# Altium footprint library WLCSP49N0.40P7X7_3.3X3.3X0.6-49_49.PcbLib: 1 footprints
Each footprint in its own frame and in the unit in brackets; x right, y up, seen from the top. Pads: shape width x height; smd on the part's side, far side on the other; paste and mask are expansions set on the pad; w line width, h text height; cw(c..) or ccw(c..) is an arc to the next point about the centre after c.
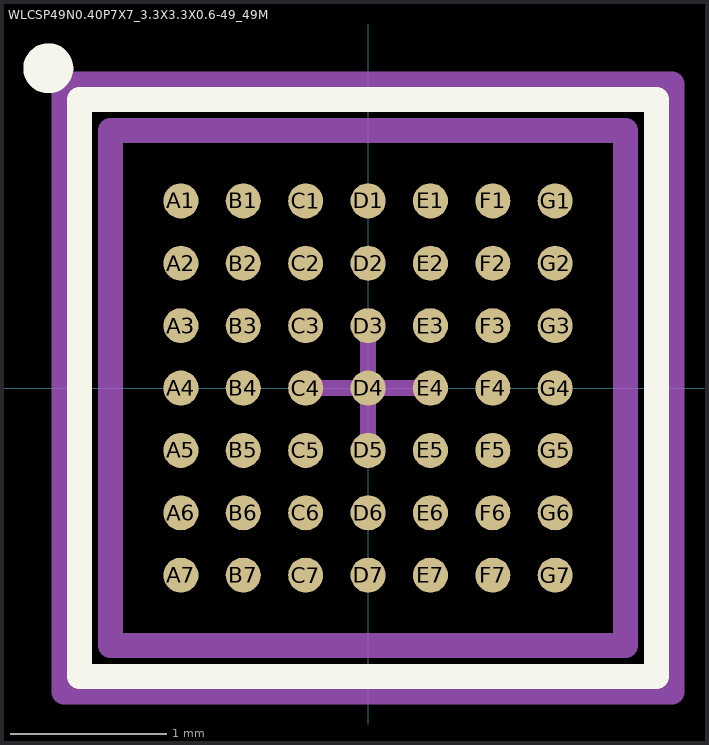
[diagram p0: the footprint, top view; thin cyan lines are the x and y axes]

## WLCSP49N0.40P7X7_3.3X3.3X0.6-49_49M [mm] "WLCSP 49 3.3x3.3x0.6 P 0.4 mm"
height 0.6
pads (49):
  round 0.225 smd: A1(-1.2,1.2) A2(-1.2,0.8) A3(-1.2,0.4) A4(-1.2,0) A5(-1.2,-0.4) A6(-1.2,-0.8) A7(-1.2,-1.2) B1(-0.8,1.2) B2(-0.8,0.8) B3(-0.8,0.4) B4(-0.8,0) B5(-0.8,-0.4) B6(-0.8,-0.8) B7(-0.8,-1.2) C1(-0.4,1.2) C2(-0.4,0.8) C3(-0.4,0.4) C4(-0.4,0) C5(-0.4,-0.4) C6(-0.4,-0.8) C7(-0.4,-1.2) D1(0,1.2) D2(0,0.8) D3(0,0.4) D4(0,0) D5(0,-0.4) D6(0,-0.8) D7(0,-1.2) E1(0.4,1.2) E2(0.4,0.8) E3(0.4,0.4) E4(0.4,0) E5(0.4,-0.4) E6(0.4,-0.8) E7(0.4,-1.2) F1(0.8,1.2) F2(0.8,0.8) F3(0.8,0.4) F4(0.8,0) F5(0.8,-0.4) F6(0.8,-0.8) F7(0.8,-1.2) G1(1.2,1.2) G2(1.2,0.8) G3(1.2,0.4) G4(1.2,0) G5(1.2,-0.4) G6(1.2,-0.8) G7(1.2,-1.2)
Top Overlay:
  circle w0.16: c-2.05,2.05 r0.08
  lines w0.16: -1.85,-1.85 1.85,-1.85 1.85,1.85 -1.85,1.85 -1.85,-1.85
Top Component Center:
  lines w0.1: -0.412,0 0.412,0 ; 0,-0.412 0,0.412
Top Courtyard:
  lines w0.16: -1.95,-1.95 1.95,-1.95 1.95,1.95 -1.95,1.95 -1.95,-1.95
Top Assembly:
  lines w0.16: -1.65,-1.65 1.65,-1.65 1.65,1.65 -1.65,1.65 -1.65,-1.65
3D body "WLCSP49N0.40P7X7_3.3X3.3X0.6-49_49M.STEP": height 0.6, standoff 0, extent -1.65,-1.65 1.65,1.65